# Altium footprint library Transistors.PcbLib: 3 footprints
Each footprint in its own frame and in the unit in brackets; x right, y up, seen from the top. Pads: shape width x height; smd on the part's side, far side on the other; paste and mask are expansions set on the pad; w line width, h text height; cw(c..) or ccw(c..) is an arc to the next point about the centre after c.
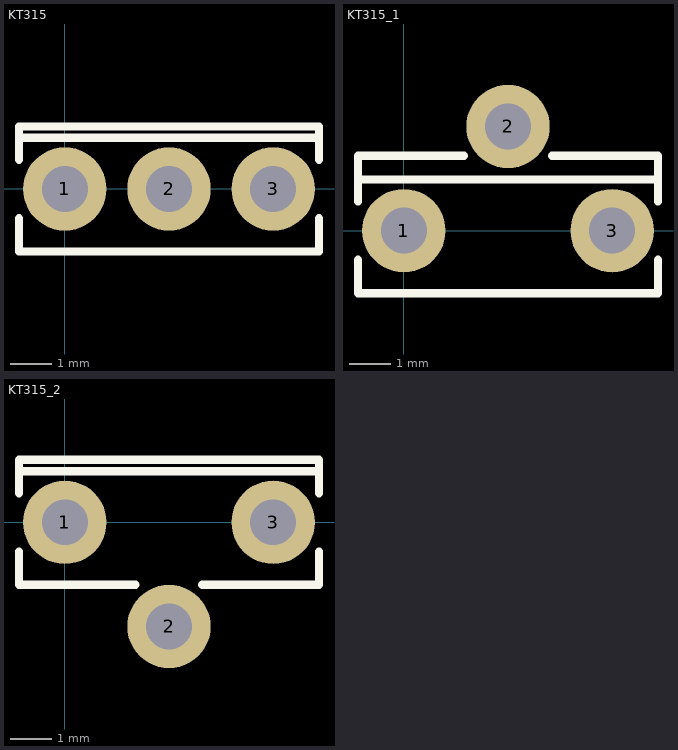
[diagram p0: the footprints below, top view; thin cyan lines are the x and y axes]

## KT315 [mm]
height 8
pads (3):
  round 2 hole 1.1: 1(0,0) 2(2.5,0) 3(5,0)
Top Overlay:
  lines w0.2: -1.1,-0.7 -1.1,-1.5 6.1,-1.5 6.1,-0.7 ; -1.1,0.7 -1.1,1.5 6.1,1.5 6.1,0.7 ; -1.1,1.227 6.1,1.227
3D body "KT-13_1.STEP": height 8, standoff -3, extent -1.1,-1.4 6.1,1.6

## KT315_1 [mm]
height 8
pads (3):
  round 2 hole 1.1: 1(0,0) 2(2.5,2.5) 3(5,0)
Top Overlay:
  lines w0.2: -1.1,-0.7 -1.1,-1.5 6.1,-1.5 6.1,-0.7 ; -1.1,0.7 -1.1,1.8 1.444,1.8 ; -1.1,1.227 6.1,1.227 ; 3.556,1.8 6.1,1.8 6.1,0.7
3D body "KT-13_2.STEP": height 6, standoff -2.5, extent -1.1,-1.4 6.1,2.6

## KT315_2 [mm]
height 6
pads (3):
  round 2 hole 1.1: 1(0,0) 2(2.5,-2.5) 3(5,0)
Top Overlay:
  lines w0.2: -1.1,-0.7 -1.1,-1.5 1.698,-1.5 ; -1.1,0.7 -1.1,1.5 6.1,1.5 6.1,0.7 ; -1.1,1.227 6.1,1.227 ; 3.302,-1.5 6.1,-1.5 6.1,-0.7
3D body "KT-13_3.STEP": height 6, standoff -2.5, extent -1.1,-2.6 6.1,1.6